# EAGLE library part LOWPOWERLAB_RFM69 (library Moteino)
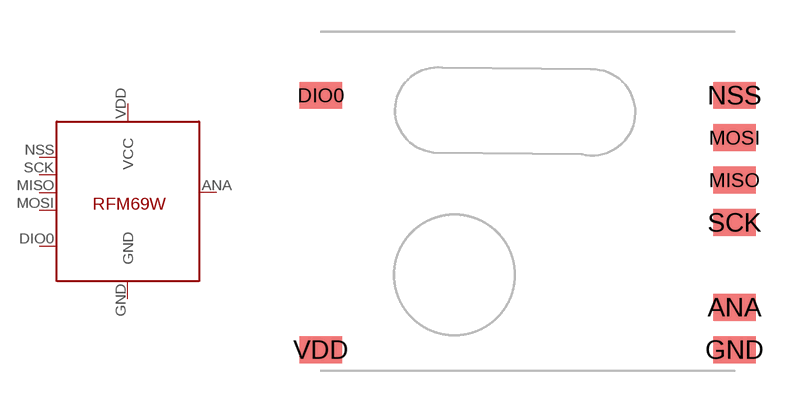
[diagram p3: symbol with the pads of LOWPOWERLAB_RFM69W-MINPADS; footprint LOWPOWERLAB_RFM69W-MINPADS]

Designator prefix -

## LOWPOWERLAB_RFM69  [LOWPOWERLAB_RFM69W-MINPADS]
ANA  ANT  pas
DIO0  DIO0  oc
GND  GND  pwr
MISO  MISO  in
MOSI  MOSI  out
NSS  SEL  in
SCK  SCK  in
VDD  VCC  pwr

## Footprint LOWPOWERLAB_RFM69W-MINPADS (pad centres in mm)
smd 2 x 1.27: ANA 8,-5; DIO0 -11.5,5; GND 8,-7; MISO 8,1; MOSI 8,3; NSS 8,5; SCK 8,-1; VDD -11.5,-7